# Altium integrated library BAT54S.IntLib: 1 symbol
Pins are listed as number, name and electrical type; pins without a type are passive.

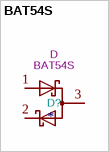
[diagram p0: symbol BAT54S]

## BAT54S
designator D?  value BAT54S  Reference: D
ki_keywords: Dual Schottky Diode Series; ki_description: Dual Schottky Diode in Series; Datasheet: https://diotec.com/request/datasheet/bat54.pdf
footprint SOT-23 (SOT23, 3-Leads, IPC Medium Density, TO-236)
pins: 1 A, 2 C, 3